# Altium footprint library sot23-h.PcbLib: 1 footprints
Each footprint in its own frame and in the unit in brackets; x right, y up, seen from the top. Pads: shape width x height; smd on the part's side, far side on the other; paste and mask are expansions set on the pad; w line width, h text height; cw(c..) or ccw(c..) is an arc to the next point about the centre after c.
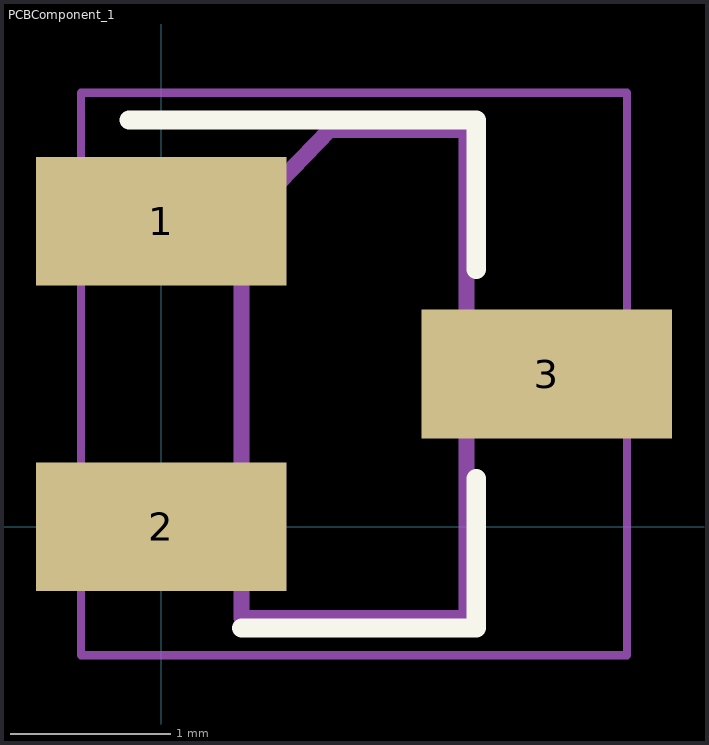
[diagram p0: the footprint, top view; thin cyan lines are the x and y axes]

## PCBComponent_1 [mil]
pads (3):
  rect 61.42x31.5 smd: 1(0,74.8) 2(0,0) 3(94.48,37.4)
Top Overlay:
  lines w4.72: -7.88,99.6 77.16,99.6 77.16,62.99 ; 19.68,-24.8 77.16,-24.8 77.16,11.81
Mechanical 1:
  lines w1.97: -19.69,-31.5 -19.69,106.3 114.17,106.3 114.17,-31.5 -19.69,-31.5
Mechanical 15:
  lines w3.94: 19.68,-22.44 74.8,-22.44 74.8,97.24 41.33,97.24 19.68,74.8 19.68,-21.66
  text "Q3" at 57.08,21.65 h19.68